# Altium footprint library W5500-0603.PcbLib: 11 footprints
Each footprint in its own frame and in the unit in brackets; x right, y up, seen from the top. Pads: shape width x height; smd on the part's side, far side on the other; paste and mask are expansions set on the pad; w line width, h text height; cw(c..) or ccw(c..) is an arc to the next point about the centre after c.
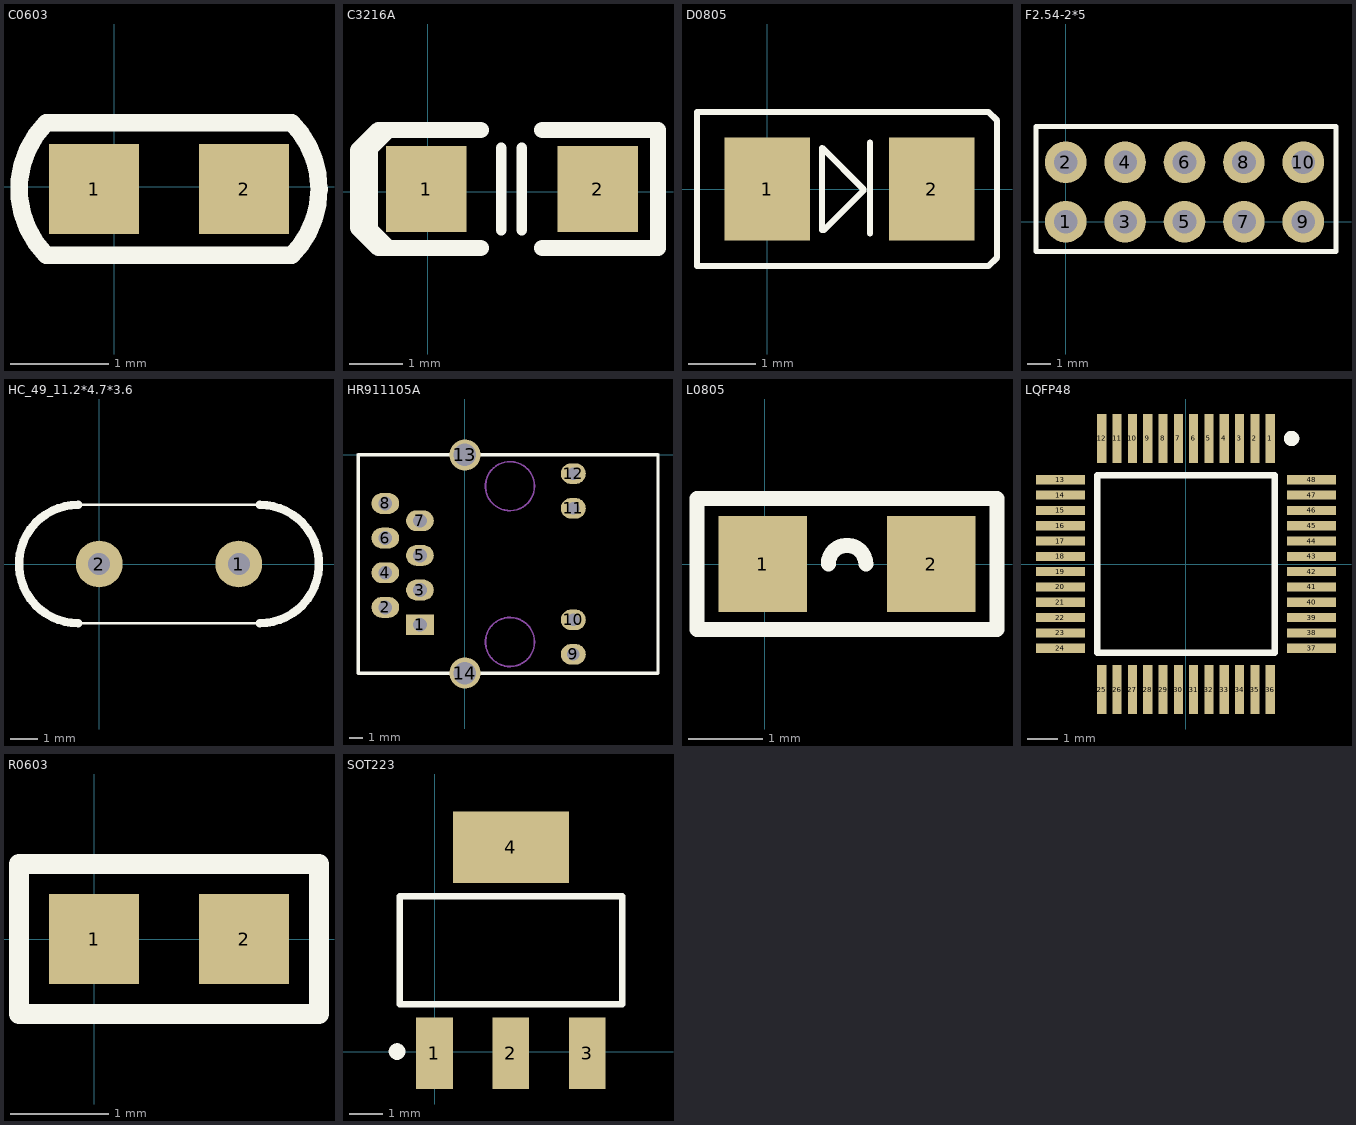
[diagram p0: the footprints below, top view; thin cyan lines are the x and y axes]

## C0603 [mil]
pads (2):
  rect 36x36 smd: 1(-8,-1) 2(52,-1)
Top Overlay:
  lines w7: -27.02,25.5 70.99,25.55 ; -27.02,25.53 ccw(c-0.5,-0.98) -27.02,-27.5 71.02,-27.45 ; 71.02,-27.52 ccw(c44.5,-1) 71.02,25.52 ; 71.02,-27.5 71.02,-27.5 ; 70.99,25.5 71.02,25.5

## C3216A [mm]
pads (2):
  rect 1.5x1.6 smd: 1(-0.025,0.051) 2(3.175,0.051)
Top Overlay:
  lines w0.2: -1.108,-0.771 -1.108,0.957 ; -1.025,-0.949 -1.025,1.051 ; -1.025,-0.711 -0.998,-0.711 -0.66,-1.049 ; -1.025,0.813 -0.998,0.813 -0.66,1.151 ; 1.372,-0.711 1.372,0.813 ; 1.753,-0.711 1.753,0.813
  lines w0.305: 0.991,-1.049 -0.914,-1.049 -1.295,-0.668 -1.295,0.77 -0.914,1.151 0.991,1.151 ; 2.134,-1.049 4.293,-1.049 4.293,1.151 2.134,1.151

## D0805 [mil]
pads (2):
  rect 50x60 smd: 1(0,0) 2(96,0)
Top Overlay:
  lines w3.6: 32,-24 32,24 56,0 ; 33,-24 56,-1 ; 60,-26 60,27 ; -41,-45 59,-45 119,-45 129,-45 134,-40 134,40 129,45 -41,45 -41,-45

## F2.54-2*5 [mil]
pads (10):
  round 70 hole 40: 1(0,0) 2(0,100) 3(100,0) 4(100,100) 5(200,0) 6(200,100) 7(300,0) 8(300,100) 9(400,0) 10(400,100)
Top Overlay:
  lines w8: -50,-50 -50,160 455,160 455,-50 -50,-50

## H-3.2-3.2mm [mm]
via 0,0 diameter 3.2 hole 3.2

## HC_49_11.2*4.7*3.6 [mm]
pads (2):
  round 1.7 hole 0.8: 1(5.08,0) 2(0,0)
Top Overlay:
  lines w0.091: -0.762,-2.159 5.842,-2.159 ; -0.762,2.159 5.842,2.159
  lines w0.305: -0.762,-2.159 cw(c-0.762,0) -0.762,2.159 ; 5.842,-2.159 ccw(c5.842,0) 5.842,2.159

## HR911105A [mil]
pads (14):
  rect 80x60 hole 40: 1(-130,-490)
  oval 80x60 hole 40: 2(-230,-440) 3(-130,-390) 4(-230,-340) 5(-130,-290) 6(-230,-240) 7(-130,-190) 8(-230,-140)
  oval 72x60 hole 36: 9(312.91,-575.63) 10(312.91,-476) 11(312.91,-154.13) 12(312.91,-54)
  round 90 hole 65: 13(-0.08,0.16) 14(-0.08,-629.76)
Top Overlay:
  lines w10: -308.74,-630 -308.5,-629.76 ; -308.74,0 -308.58,0.16 ; -308.58,0.16 -0.08,0.16 557.24,0.16 557.4,0 557.4,-630 557.17,-629.76 -0.08,-629.76 -308.5,-629.76 ; -308.58,0.16 -308.58,-629.69 -308.5,-629.76
Mechanical 1:
  circle w5: c130,-90 r70.8
  circle w5: c130,-540 r70.8

## L0805 [mm]
pads (2):
  rect 1.2x1.3 smd: 1(-0.025,0) 2(2.261,0)
Top Overlay:
  lines w0.127: -0.914,-0.889 -0.914,0.889 1.626,0.889 3.15,0.889 3.15,-0.889 1.626,-0.889
  lines w0.203: 0.864,0 cw(c1.118,0) 1.372,0 ; 0.965,-0.889 3.15,-0.889 3.15,0.889 -0.914,0.889 -0.914,-0.889 1.626,-0.889

## LQFP48 [mm]
pads (48):
  rect 0.3x1.6 smd: 1(2.75,4.1) 2(2.25,4.1) 3(1.75,4.1) 4(1.25,4.1) 5(0.75,4.1) 6(0.25,4.1) 7(-0.25,4.1) 8(-0.75,4.1) 9(-1.25,4.1) 10(-1.75,4.1) 11(-2.25,4.1) 12(-2.75,4.1) 25(-2.75,-4.1) 26(-2.25,-4.1) 27(-1.75,-4.1) 28(-1.25,-4.1) 29(-0.75,-4.1) 30(-0.25,-4.1) 31(0.25,-4.1) 32(0.75,-4.1) 33(1.25,-4.1) 34(1.75,-4.1) 35(2.25,-4.1) 36(2.75,-4.1)
  rect 1.6x0.3 smd: 13(-4.1,2.75) 14(-4.1,2.25) 15(-4.1,1.75) 16(-4.1,1.25) 17(-4.1,0.75) 18(-4.1,0.25) 19(-4.1,-0.25) 20(-4.1,-0.75) 21(-4.1,-1.25) 22(-4.1,-1.75) 23(-4.1,-2.25) 24(-4.1,-2.75) 37(4.1,-2.75) 38(4.1,-2.25) 39(4.1,-1.75) 40(4.1,-1.25) 41(4.1,-0.75) 42(4.1,-0.25) 43(4.1,0.25) 44(4.1,0.75) 45(4.1,1.25) 46(4.1,1.75) 47(4.1,2.25) 48(4.1,2.75)
Top Overlay:
  circle w0.25: c3.45,4.1 r0.125
  lines w0.2: -2.9,-2.9 2.9,-2.9 2.9,2.9 -2.9,2.9 -2.9,-2.9

## R0603 [mil]
pads (2):
  rect 36x36 smd: 1(0,0) 2(60,0)
Top Overlay:
  lines w8: 42.87,-30 90,-30 90,30 42.87,30 -30,30 -30,-30 60,-30

## SOT223 [mm] "ASM1117"
pads (4):
  rect 1.1x2.15 smd: 1(-0.014,-0.052) 2(2.286,-0.052) 3(4.586,-0.052)
  rect 3.5x2.15 smd: 4(2.286,6.148)
Top Overlay:
  circle w0.25: c-1.141,0 r0.125
  lines w0.2: -1.064,1.423 5.636,1.423 5.636,4.673 -1.064,4.673 -1.064,1.423